# Altium integrated library ALTIUM-WE-SL5-rev16a.IntLib: 9 symbols
Pins are listed as number, name and electrical type; pins without a type are passive.

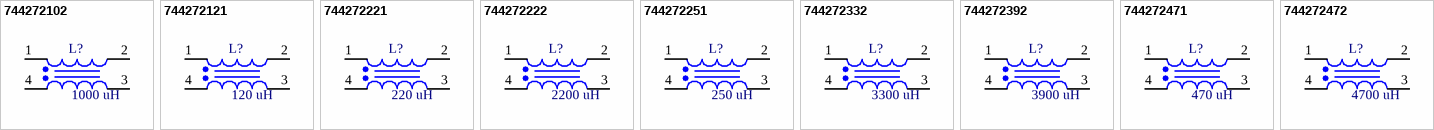
[diagram p0: symbols 744272102 to 744272472]

## 744272102
designator L?, comment 1000 uH
WE-SL5 SMD Common Mode Line Filter, 1000 uH; PartNumber: 744272102; RatedCurrent: 0.95 A; PublishedDate: Nov. 2016; Publisher: Wurth Elektronik; ComponentLink1Description: Manufacturer; ComponentLink1URL: http://www.we-online.de; ComponentLink2Description: Datasheet; ComponentLink2URL: http://katalog.we-online.com/pbs/datasheet/744272102.pdf; Value: 1000 uH
footprint WE-SL5_sectioinal
pins: 1, 2, 3, 4

## 744272121
designator L?, comment 120 uH
WE-SL5 SMD Common Mode Line Filter, 120 uH; PartNumber: 744272121; RatedCurrent: 2.5 A; PublishedDate: Nov. 2016; Publisher: Wurth Elektronik; ComponentLink1Description: Manufacturer; ComponentLink1URL: http://www.we-online.de; ComponentLink2Description: Datasheet; ComponentLink2URL: http://katalog.we-online.com/pbs/datasheet/744272121.pdf; Value: 120 uH
footprint WE-SL5_sectioinal
pins: 1, 2, 3, 4

## 744272221
designator L?, comment 220 uH
WE-SL5 SMD Common Mode Line Filter, 220 uH; PartNumber: 744272221; RatedCurrent: 2.2 A; PublishedDate: Nov. 2016; Publisher: Wurth Elektronik; ComponentLink1Description: Manufacturer; ComponentLink1URL: http://www.we-online.de; ComponentLink2Description: Datasheet; ComponentLink2URL: http://katalog.we-online.com/pbs/datasheet/744272221.pdf; Value: 220 uH
footprint WE-SL5_sectioinal
pins: 1, 2, 3, 4

## 744272222
designator L?, comment 2200 uH
WE-SL5 SMD Common Mode Line Filter, 2200 uH; PartNumber: 744272222; RatedCurrent: 0.75 A; PublishedDate: Nov. 2016; Publisher: Wurth Elektronik; ComponentLink1Description: Manufacturer; ComponentLink1URL: http://www.we-online.de; ComponentLink2Description: Datasheet; ComponentLink2URL: http://katalog.we-online.com/pbs/datasheet/744272222.pdf; Value: 2200 uH
footprint WE-SL5_bifilar
pins: 1, 2, 3, 4

## 744272251
designator L?, comment 250 uH
WE-SL5 SMD Common Mode Line Filter, 250 uH; PartNumber: 744272251; RatedCurrent: 2 A; PublishedDate: Nov. 2016; Publisher: Wurth Elektronik; ComponentLink1Description: Manufacturer; ComponentLink1URL: http://www.we-online.de; ComponentLink2Description: Datasheet; ComponentLink2URL: http://katalog.we-online.com/pbs/datasheet/744272251.pdf; Value: 250 uH
footprint WE-SL5_sectioinal
pins: 1, 2, 3, 4

## 744272332
designator L?, comment 3300 uH
WE-SL5 SMD Common Mode Line Filter, 3300 uH; PartNumber: 744272332; RatedCurrent: 0.65 A; PublishedDate: Nov. 2016; Publisher: Wurth Elektronik; ComponentLink1Description: Manufacturer; ComponentLink1URL: http://www.we-online.de; ComponentLink2Description: Datasheet; ComponentLink2URL: http://katalog.we-online.com/pbs/datasheet/744272332.pdf; Value: 3300 uH
footprint WE-SL5_bifilar
pins: 1, 2, 3, 4

## 744272392
designator L?, comment 3900 uH
WE-SL5 SMD Common Mode Line Filter, 3900 uH; PartNumber: 744272392; RatedCurrent: 0.52 A; PublishedDate: Nov. 2016; Publisher: Wurth Elektronik; ComponentLink1Description: Manufacturer; ComponentLink1URL: http://www.we-online.de; ComponentLink2Description: Datasheet; ComponentLink2URL: http://katalog.we-online.com/pbs/datasheet/744272392.pdf; Value: 3900 uH
footprint WE-SL5_bifilar
pins: 1, 2, 3, 4

## 744272471
designator L?, comment 470 uH
WE-SL5 SMD Common Mode Line Filter, 470 uH; PartNumber: 744272471; RatedCurrent: 1.6 A; PublishedDate: Nov. 2016; Publisher: Wurth Elektronik; ComponentLink1Description: Manufacturer; ComponentLink1URL: http://www.we-online.de; ComponentLink2Description: Datasheet; ComponentLink2URL: http://katalog.we-online.com/pbs/datasheet/744272471.pdf; Value: 470 uH
footprint WE-SL5_sectioinal
pins: 1, 2, 3, 4

## 744272472
designator L?, comment 4700 uH
WE-SL5 SMD Common Mode Line Filter, 4700 uH; PartNumber: 744272472; RatedCurrent: 0.35 A; PublishedDate: Nov. 2016; Publisher: Wurth Elektronik; ComponentLink1Description: Manufacturer; ComponentLink1URL: http://www.we-online.de; ComponentLink2Description: Datasheet; ComponentLink2URL: http://katalog.we-online.com/pbs/datasheet/744272472.pdf; Value: 4700 uH
footprint WE-SL5_bifilar
pins: 1, 2, 3, 4